# Altium schematic symbol library Interfaces.SchLib: 4 symbols
Pins are listed as number, name and electrical type; pins without a type are passive.

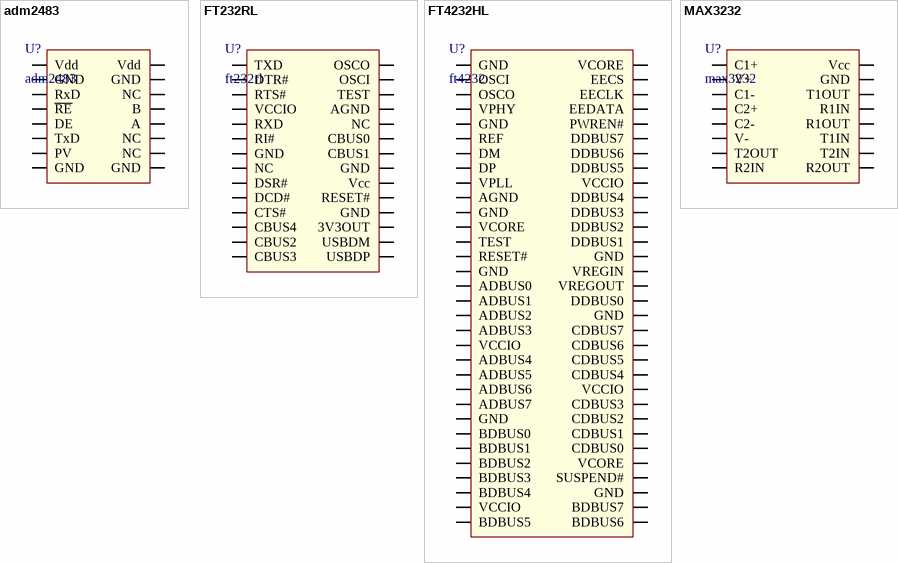
[diagram p0: symbols adm2483 to MAX3232]

## adm2483
designator U?
rs-485
footprint adm_2483
pins: 1 Vdd, 2 GND, 3 RxD, 4 ~{RE}, 5 DE, 6 TxD, 7 PV, 8 GND, 9 GND, 10 NC, 11 NC, 12 A, 13 B, 14 NC, 15 GND, 16 Vdd

## FT232RL
designator U?, comment ft232rl
usb->uart
footprint ft232rl (Footprint not found)
pins: 1 TXD, 2 DTR#, 3 RTS#, 4 VCCIO, 5 RXD, 6 RI#, 7 GND, 8 NC, 9 DSR#, 10 DCD#, 11 CTS#, 12 CBUS4, 13 CBUS2, 14 CBUS3, 15 USBDP, 16 USBDM, 17 3V3OUT, 18 GND, 19 RESET#, 20 Vcc, 21 GND, 22 CBUS1, 23 CBUS0, 24 NC, 25 AGND, 26 TEST, 27 OSCI, 28 OSCO

## FT4232HL
designator U?, comment ft4232
usb -> 4 x uart
footprint ft4232-pqfp-64
pins: 1 GND, 2 OSCI, 3 OSCO, 4 VPHY, 5 GND, 6 REF, 7 DM, 8 DP, 9 VPLL, 10 AGND, 11 GND, 12 VCORE, 13 TEST, 14 RESET#, 15 GND, 16 ADBUS0, 17 ADBUS1, 18 ADBUS2, 19 ADBUS3, 20 VCCIO, 21 ADBUS4, 22 ADBUS5, 23 ADBUS6, 24 ADBUS7, 25 GND, 26 BDBUS0, 27 BDBUS1, 28 BDBUS2, 29 BDBUS3, 30 BDBUS4, 31 VCCIO, 32 BDBUS5, 33 BDBUS6, 34 BDBUS7, 35 GND, 36 SUSPEND#, 37 VCORE, 38 CDBUS0, 39 CDBUS1, 40 CDBUS2, 41 CDBUS3, 42 VCCIO, 43 CDBUS4, 44 CDBUS5, 45 CDBUS6, 46 CDBUS7, 47 GND, 48 DDBUS0, 49 VREGOUT, 50 VREGIN, 51 GND, 52 DDBUS1, 53 DDBUS2, 54 DDBUS3, 55 DDBUS4, 56 VCCIO, 57 DDBUS5, 58 DDBUS6, 59 DDBUS7, 60 PWREN#, 61 EEDATA, 62 EECLK, 63 EECS, 64 VCORE

## MAX3232
designator U?, comment max3232
uart -<->- rs232
footprint max3232-tssop16
pins: 1 C1+, 2 V+, 3 C1-, 4 C2+, 5 C2-, 6 V-, 7 T2OUT, 8 R2IN, 9 R2OUT, 10 T2IN, 11 T1IN, 12 R1OUT, 13 R1IN, 14 T1OUT, 15 GND, 16 Vcc